# Altium integrated library oled_displays.IntLib: 3 symbols
Pins are listed as number, name and electrical type; pins without a type are passive.

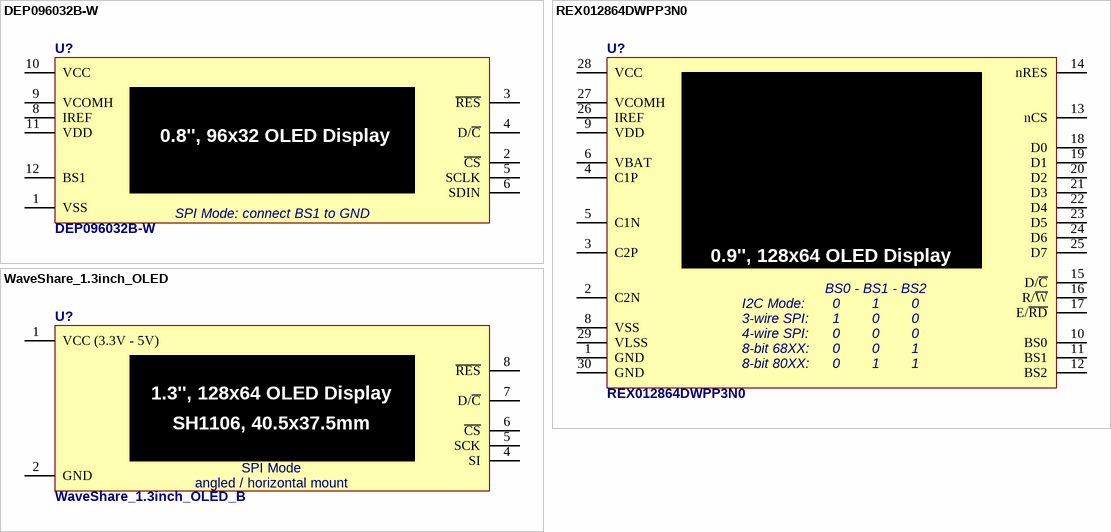
[diagram p0: symbols DEP096032B-W to WaveShare_1.3inch_OLED]

## DEP096032B-W
designator U?
DEP096032B-W OLED Display
footprint DEP096032B-W (DEP096032B-W OLED Display)
footprint DEP096032B-W_2
pins: 1 VSS, 2 ~{CS}, 3 ~{RES}, 4 D/~{C}, 5 SCLK, 6 SDIN, 7 NC / SDAOUT hidden, 8 IREF, 9 VCOMH, 10 VCC, 11 VDD, 12 BS1
2 alternate drawings of the same symbol
text: 0.8'', 96x32 OLED Display; SPI Mode: connect BS1 to GND

## REX012864DWPP3N0
designator U?
REX012864DWPP3N0 OLED Display
footprint REX012864DWPP3N0
pins: 1 GND, 2 C2N, 3 C2P, 4 C1P, 5 C1N, 6 VBAT, 7 NC hidden, 8 VSS, 9 VDD, 10 BS0, 11 BS1, 12 BS2, 13 nCS, 14 nRES, 15 D/~{C}, 16 R/~{W}, 17 E/~{RD}, 18 D0, 19 D1, 20 D2, 21 D3, 22 D4, 23 D5, 24 D6, 25 D7, 26 IREF, 27 VCOMH, 28 VCC, 29 VLSS, 30 GND
2 alternate drawings of the same symbol
text: 0.9'', 128x64 OLED Display; BS0 - BS1 - BS2; I2C Mode:; 0        1        0; 3-wire SPI:; 1        0        0; 4-wire SPI:; 0        0        0; 8-bit 68XX:; 0        0        1; 8-bit 80XX:; 0        1        1

## WaveShare_1.3inch_OLED
designator U?, comment WaveShare_1.3inch_OLED_B
DEP096032B-W OLED Display
footprint WaveShare_1.3INCH_OLED
pins: 1 VCC (3.3V - 5V), 2 GND, 4 SI, 5 SCK, 6 ~{CS}, 7 D/~{C}, 8 ~{RES}
1 alternate drawing of the same symbol
text: 1.3'', 128x64 OLED Display; SH1106, 40.5x37.5mm; SPI Mode; angled / horizontal mount